# Altium footprint library IND-5852.PcbLib: 1 footprints
Each footprint in its own frame and in the unit in brackets; x right, y up, seen from the top. Pads: shape width x height; smd on the part's side, far side on the other; paste and mask are expansions set on the pad; w line width, h text height; cw(c..) or ccw(c..) is an arc to the next point about the centre after c.
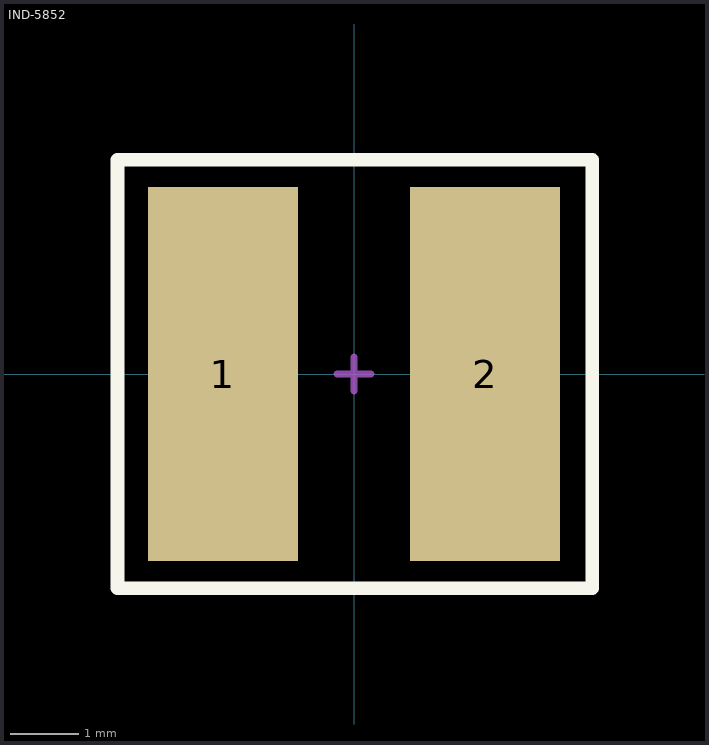
[diagram p0: the footprint, top view; thin cyan lines are the x and y axes]

## IND-5852 [mm]
height 0.55
pads (2):
  rect 2.2x5.5 smd: 1(-1.925,0) 2(1.925,0)
Top Overlay:
  lines w0.2: -3.475,-3.15 3.5,-3.15 3.5,3.15 -3.475,3.15 -3.475,-3.15
Top Assembly:
  lines w0.1: -0.25,0 0.25,0 ; 0,-0.25 0,0.25 ; -3.475,-3.15 3.5,-3.15 3.5,3.15 -3.475,3.15 -3.475,-3.15
  text "'.Designator'" at 0,0 h0.7
3D body "69869.stp": height 4.5, standoff 0, extent -3,-3 3,3